# Altium schematic symbol library BAV99.SchLib: 1 symbol
Pins are listed as number, name and electrical type; pins without a type are passive.

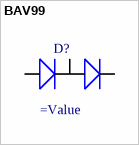
[diagram p0: symbol BAV99]

## BAV99
designator D?
Diodes - General Purpose, Power, Switching SOT23,215mA,75V,Dual,Switching; Manufacturer_Name: Rectron; Manufacturer_Part_Number: BAV99; Geometry.Height: 1.25mm; Mouser Part Number: 583-BAV99; Mouser Price/Stock: https://www.mouser.co.uk/ProductDetail/Rectron/BAV99?qs=7pEAo90IqNFHEty9CuCrMA%3D%3D; Datasheet Link: https://www.arrow.com/en/products/bav99/rectron
footprint SOT23-3P102_235X115L52X43N (Small Outline Transistor, SOT-23 Type, 1.02 mm pitch; 3 pin, 2.92 mm L X 1.30 mm W X 1.15 mm H Body)
pins: 1, 2, 3